# Altium footprint library dinhdung.PcbLib: 24 footprints (part 2 of 2)
Each footprint in its own frame and in the unit in brackets; x right, y up, seen from the top. Pads: shape width x height; smd on the part's side, far side on the other; paste and mask are expansions set on the pad; w line width, h text height; cw(c..) or ccw(c..) is an arc to the next point about the centre after c.
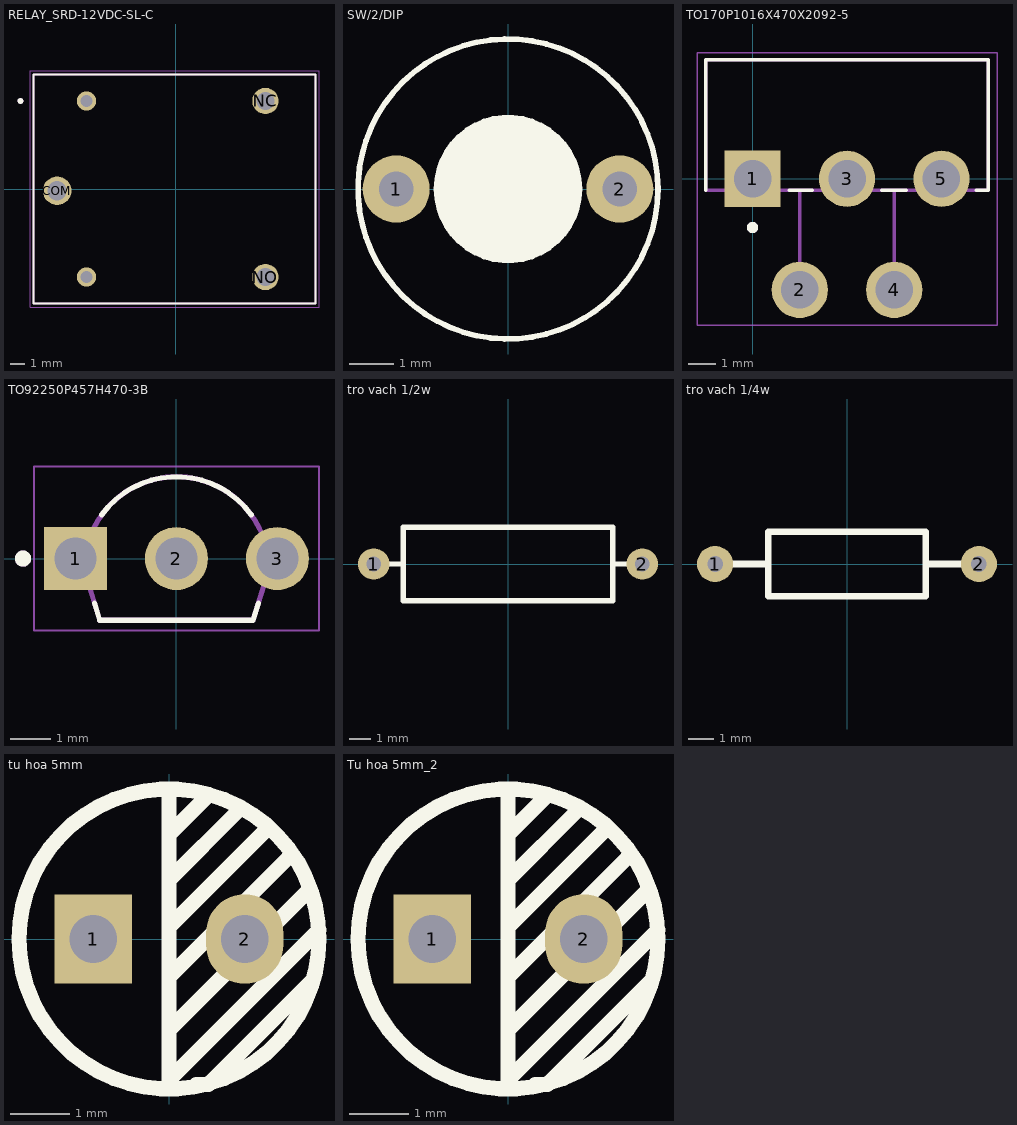
[diagram p1: the footprints below, top view; thin cyan lines are the x and y axes]

## RELAY_SRD-12VDC-SL-C [mm]
pads (5):
  round 1.308 hole 0.8: COIL1(-6.1,6) COIL2(-6.1,-6)
  round 1.95 hole 1.3: COM(-8.1,-0.12)
  round 1.8 hole 1.2: NC(6.1,6) NO(6.1,-6)
Top Overlay:
  circle w0.2: c-10.6,6 r0.1
  lines w0.127: -9.7,-7.8 9.5,-7.8 9.5,7.8 -9.7,7.8 -9.7,-7.8
Mechanical 13:
  circle w0.2: c-10.6,6 r0.1
  lines w0.127: -9.7,-7.8 9.5,-7.8 9.5,7.8 -9.7,7.8 -9.7,-7.8
Mechanical 15:
  lines w0.05: -9.95,-8.05 9.75,-8.05 9.75,8.05 -9.95,8.05 -9.95,-8.05
3D body "step_temp.STEP": height 15.8, standoff -3, extent -9.6,-7.8 9.6,7.8

## SW/2/DIP [mil]
pads (2):
  round 60 / inner round 62 / far side round 60 hole 31: 1(-100,0) 2(100,0)
Top Overlay:
  circle w5: c0,0 r64.03
  circle w5: c0,0 r134.16
  region: 12.61,63.64 12.65,63.62 12.71,63.62 24.78,59.96 24.82,59.93 24.88,59.92 36,53.97 36.04,53.93 36.09,53.92 45.84,45.91 45.87,45.87 45.91,45.84 50.42,40.35 50.42,40.34 50.43,40.34 50.43,40.33 51.07,39.52 51.13,39.48 53.92,36.09 53.93,36.04 53.97,36 59.92,24.88 59.93,24.82 59.96,24.78 63.62,12.71 63.62,12.65 63.64,12.61 64.88,0.05 64.86,0 64.88,-0.05 63.64,-12.61 63.62,-12.65 63.62,-12.71 59.96,-24.78 59.93,-24.82 59.92,-24.88 53.97,-36 53.93,-36.04 53.92,-36.09 45.91,-45.84 45.87,-45.87 45.84,-45.91 36.09,-53.92 36.04,-53.93 36,-53.97 24.88,-59.92 24.82,-59.93 24.78,-59.96 12.71,-63.62 12.65,-63.62 12.61,-63.64 0.05,-64.88 0,-64.86 -0.05,-64.88 -12.61,-63.64 -12.65,-63.62 -12.71,-63.62 -24.78,-59.96 -24.82,-59.93 -24.88,-59.92 -36,-53.97 -36.04,-53.93 -36.09,-53.92 -45.84,-45.91 -45.87,-45.87 -45.91,-45.84 -53.92,-36.09 -53.93,-36.04 -53.97,-36 -59.92,-24.88 -59.93,-24.82 -59.96,-24.78 -63.62,-12.71 -63.62,-12.65 -63.64,-12.61 -64.88,-0.05 -64.86,0 -64.88,0.05 -63.64,12.61 -63.62,12.65 -63.62,12.71 -59.96,24.78 -59.93,24.82 -59.92,24.88 -53.97,36 -53.93,36.04 -53.92,36.09 -45.91,45.84 -45.87,45.87 -45.84,45.91 -36.09,53.92 -36.04,53.93 -36,53.97 -24.88,59.92 -24.82,59.93 -24.78,59.96 -12.71,63.62 -12.65,63.62 -12.61,63.64 -0.05,64.88 0,64.86 0.05,64.88
3D body: height 100, standoff 0, extent -133.96,-134.46 134.98,135.01
3D body: height 150, standoff 0, extent -64.49,-64.87 65,64.87

## TO170P1016X470X2092-5 [mm]
pads (5):
  rect 2.025x2.025 / inner round 2.025 / far side rect 2.025x2.025 hole 1.35: 1(0,0)
  round 2.025 hole 1.35: 2(1.7,-4) 3(3.4,0) 4(5.1,-4) 5(6.8,0)
Top Overlay:
  circle w0.2: c0,-1.755 r0.1
  lines w0.127: -1.68,-0.42 -1.68,4.28 8.48,4.28 8.48,-0.42 8.06,-0.42 ; 1.329,-0.42 2.14,-0.42 ; 4.66,-0.42 5.54,-0.42
Mechanical 13:
  circle w0.2: c0,-1.755 r0.1
  lines w0.127: 1.7,-2.99 1.7,-0.42 ; 5.1,-2.99 5.1,-0.42 ; 1.7,-0.42 5.1,-0.42 ; 1.7,-0.42 -1.68,-0.42 -1.68,4.28 8.48,4.28 8.48,-0.42 5.1,-0.42
Mechanical 15:
  lines w0.05: -2,-5.268 -2,4.533 8.8,4.533 8.8,-5.268 -2,-5.268
3D body "step_temp.STEP": height 20.93, standoff -3.78, extent -1.651,-8.217 8.509,0.254

## TO92250P457H470-3B [mm]
pads (3):
  rect 1.56x1.56 / inner round 1.56 / far side rect 1.56x1.56 hole 1.04: 1(-2.5,0)
  round 1.56 hole 1.04: 2(0,0) 3(2.5,0)
Top Overlay:
  circle w0.2: c-3.8,0 r0.1
  lines w0.127: -2.034,-1.1 -1.9,-1.528 1.9,-1.528 2.034,-1.1 ; -1.851,1.085 cw(c0,-0.26) 1.851,1.085
Mechanical 13:
  circle w0.2: c-3.8,0 r0.1
  lines w0.127: -2.288,-0.26 cw(c0,-0.26) 2.288,-0.26 1.9,-1.528 -1.9,-1.528 -2.288,-0.26
Mechanical 15:
  lines w0.05: -3.53,-1.777 3.53,-1.777 3.53,2.278 -3.53,2.278 -3.53,-1.777
3D body "step_temp.STEP": height 4.7, standoff -12.7, extent -2.25,-1.25 2.25,2.25

## tro vach 1/2w [mm]
pads (2):
  round 1.5 hole 0.7: 1(-6.4,0) 2(6.4,0)
Top Overlay:
  lines w0.254: -5.842,0 -5.08,0 ; 5.08,0 5.842,0 ; -5,-1.75 -5,1.75 5,1.75 5,-1.75 -5,-1.75
3D body "Resistro_0.5w.STEP": height 3.5, standoff -3, extent -6.62,-1.75 6.62,1.75

## tro vach 1/4w [mm]
pads (2):
  round 1.4 hole 0.6: 1(-5.1,0) 2(5.1,0)
Top Overlay:
  lines w0.254: -4.394,0 -3.073,0 ; 3.099,0 4.42,0 ; -3.048,-1.25 3.048,-1.25 3.048,1.25 -3.048,1.25 -3.048,-1.25
3D body "Resistor 0.25W-1.step": height 2.41, standoff -2, extent -5.38,-1.2 5.38,1.2

## tu hoa 5mm [mm]
pads (2):
  rect 1.3x1.5 hole 0.8: 1(-1.27,0)
  oval 1.3x1.5 hole 0.8: 2(1.27,0)
Top Overlay:
  circle w0.254: c0,0 r2.515
  lines w0.254: 0,-2.489 0,2.515 ; 0,-2.362 2.515,0.152 ; 0,-1.549 0,-1.524 2.362,0.838 ; 0,-0.737 0,-0.635 2.007,1.372 ; 0,0.203 1.651,1.854 ; 0,0.965 0,0.991 1.168,2.159 ; 0,1.727 0,1.321 0,1.753 0.61,2.362 ; 0.457,-2.438 0.66,-2.438 2.388,-0.711
3D body "Cap electro 6_3x11x2_5mm.step": height 14.55, standoff 0.01, extent -3.125,-3.175 3.226,3.175

## Tu hoa 5mm_2 [mm]
pads (2):
  rect 1.3x1.5 hole 0.8: 1(-1.27,0)
  oval 1.3x1.5 hole 0.8: 2(1.27,0)
Top Overlay:
  circle w0.254: c0,0 r2.515
  lines w0.254: 0,-2.489 0,2.515 ; 0,-2.362 2.515,0.152 ; 0,-1.549 0,-1.524 2.362,0.838 ; 0,-0.737 0,-0.635 2.007,1.372 ; 0,0.203 1.651,1.854 ; 0,0.965 0,0.991 1.168,2.159 ; 0,1.727 0,1.321 0,1.753 0.61,2.362 ; 0.457,-2.438 0.66,-2.438 2.388,-0.711
3D body "Cap electro 6_3x11x2_5mm.step": height 14.55, standoff 0.01, extent -3.125,-3.175 3.226,3.175